# EAGLE library part PCF8563 (library clocks)
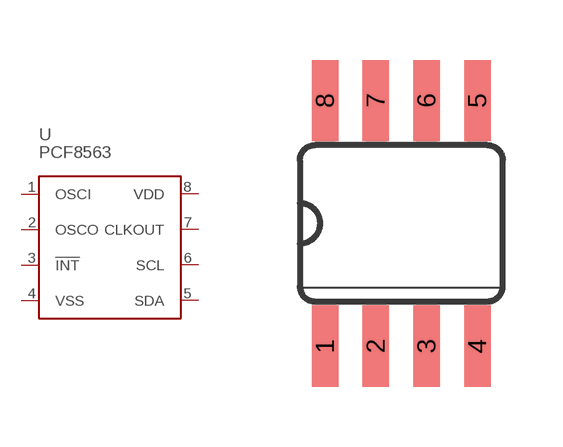
[diagram p1: symbol with the pads of SOIC08; footprint SOIC08]

Designator prefix -

## PCF8563-SOIC (FOOTPRINT: SOIC08)  [SOIC08]
1  OSCI
2  OSCO
3  !INT
4  VSS
5  SDA
6  SCL
7  CLKOUT
8  VDD

## Footprint SOIC08 (pad centres in mm)
Small Outline Package
smd 0.66 x 2.032: 1 -1.905,-3.073; 2 -0.635,-3.073; 3 0.635,-3.073; 4 1.905,-3.073; 5 1.905,3.073; 6 0.635,3.073; 7 -0.635,3.073; 8 -1.905,3.073